# EAGLE library part PIC24F16KA301-I/SS (library BloodMonLib)
S/PDIF TRNSCEIVER by CIrrus Logic/Wolfson
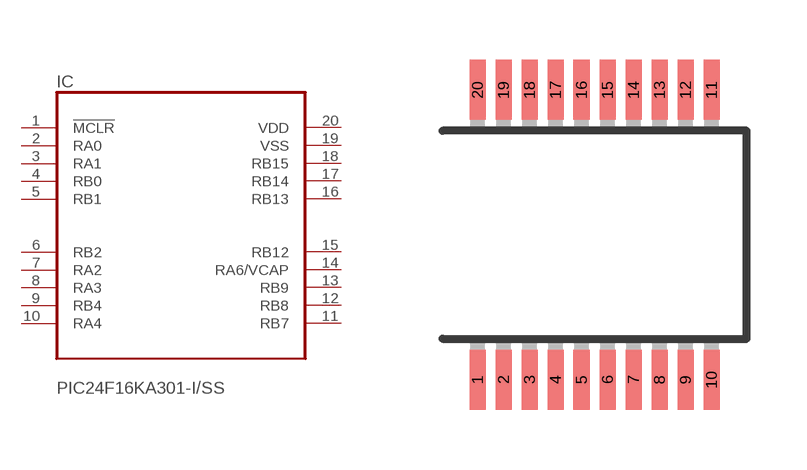
[diagram p1: symbol with the pads of WM8804; footprint WM8804]

Designator prefix IC

## PIC24F16KA301-I/SS  [WM8804]
1  !MCLR
2  RA0
3  RA1
4  RB0
5  RB1
6  RB2
7  RA2
8  RA3
9  RB4
10  RA4
11  RB7
12  RB8
13  RB9
14  RA6/VCAP
15  RB12
16  RB13
17  RB14
18  RB15
19  VSS
20  VDD

## Footprint WM8804 (pad centres in mm)
ssop20
smd 0.4 x 1.5: 1 1.393,-1.085; 2 2.043,-1.085; 3 2.693,-1.085; 4 3.343,-1.085; 5 3.993,-1.085; 6 4.643,-1.085; 7 5.293,-1.085; 8 5.943,-1.085; 9 6.593,-1.085; 10 7.243,-1.085; 11 7.243,6.165; 12 6.593,6.165; 13 5.943,6.165; 14 5.293,6.165; 15 4.643,6.165; 16 3.993,6.165; 17 3.343,6.165; 18 2.693,6.165; 19 2.043,6.165; 20 1.393,6.165